# Altium schematic symbol library Voltage Reg3.3.SchLib: 1 symbol
Pins are listed as number, name and electrical type; pins without a type are passive.

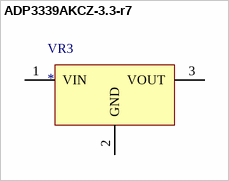
[diagram p0: symbol ADP3339AKCZ-3.3-r7]

## ADP3339AKCZ-3.3-r7
designator VR3
footprint VREG-3.3 (SOT223, 4-Leads, Body 6.50x7.00mm (avg), Pitch 2.30mm, IPC Medium Density); pin to pad 1>3 2>1 3>2
pins: 1 VIN, 2 GND, 3 VOUT